# Altium schematic symbol library LMR514xx.SchLib: 1 symbol
Pins are listed as number, name and electrical type; pins without a type are passive.

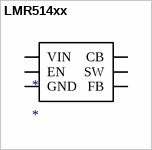
[diagram p0: symbol LMR514xx]

## LMR514xx
designator *
SIMPLE SWITCHER® Power Converter, 4V to 42V, 0.6A / 1A Buck Converter / in a SOT-23 Package
pins: 1 CB, 2 GND, 3 FB, 4 EN, 5 VIN, 6 SW